# EAGLE library part NRF24MINI (library nrf24mini)
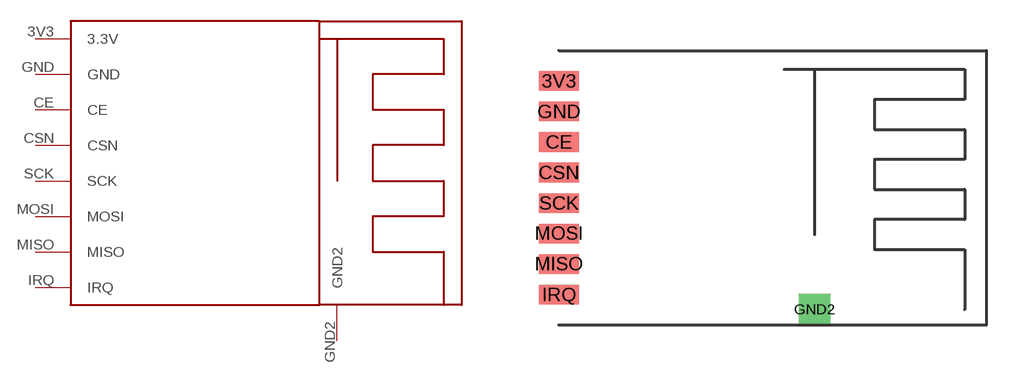
[diagram p0: symbol with the pads of NRF24MINI; footprint NRF24MINI]

Designator prefix -

## NRF24MINI  [NRF24MINI]
3V3  3.3V
CE  CE
CSN  CSN
GND  GND
GND2  GND2
IRQ  IRQ
MISO  MISO
MOSI  MOSI
SCK  SCK

## Footprint NRF24MINI (pad centres in mm)
smd 1.676 x 0.813: 3V3 0,8.89; CE 0,6.35; CSN 0,5.08; GND 0,7.62; IRQ 0,0; MISO 0,1.27; MOSI 0,2.54; SCK 0,3.81
drill 0.8 square: GND2 10.625,-0.625